# Altium footprint library on-semiconductor.PCBLIB: 14 footprints
Each footprint in its own frame and in the unit in brackets; x right, y up, seen from the top. Pads: shape width x height; smd on the part's side, far side on the other; paste and mask are expansions set on the pad; w line width, h text height; cw(c..) or ccw(c..) is an arc to the next point about the centre after c.
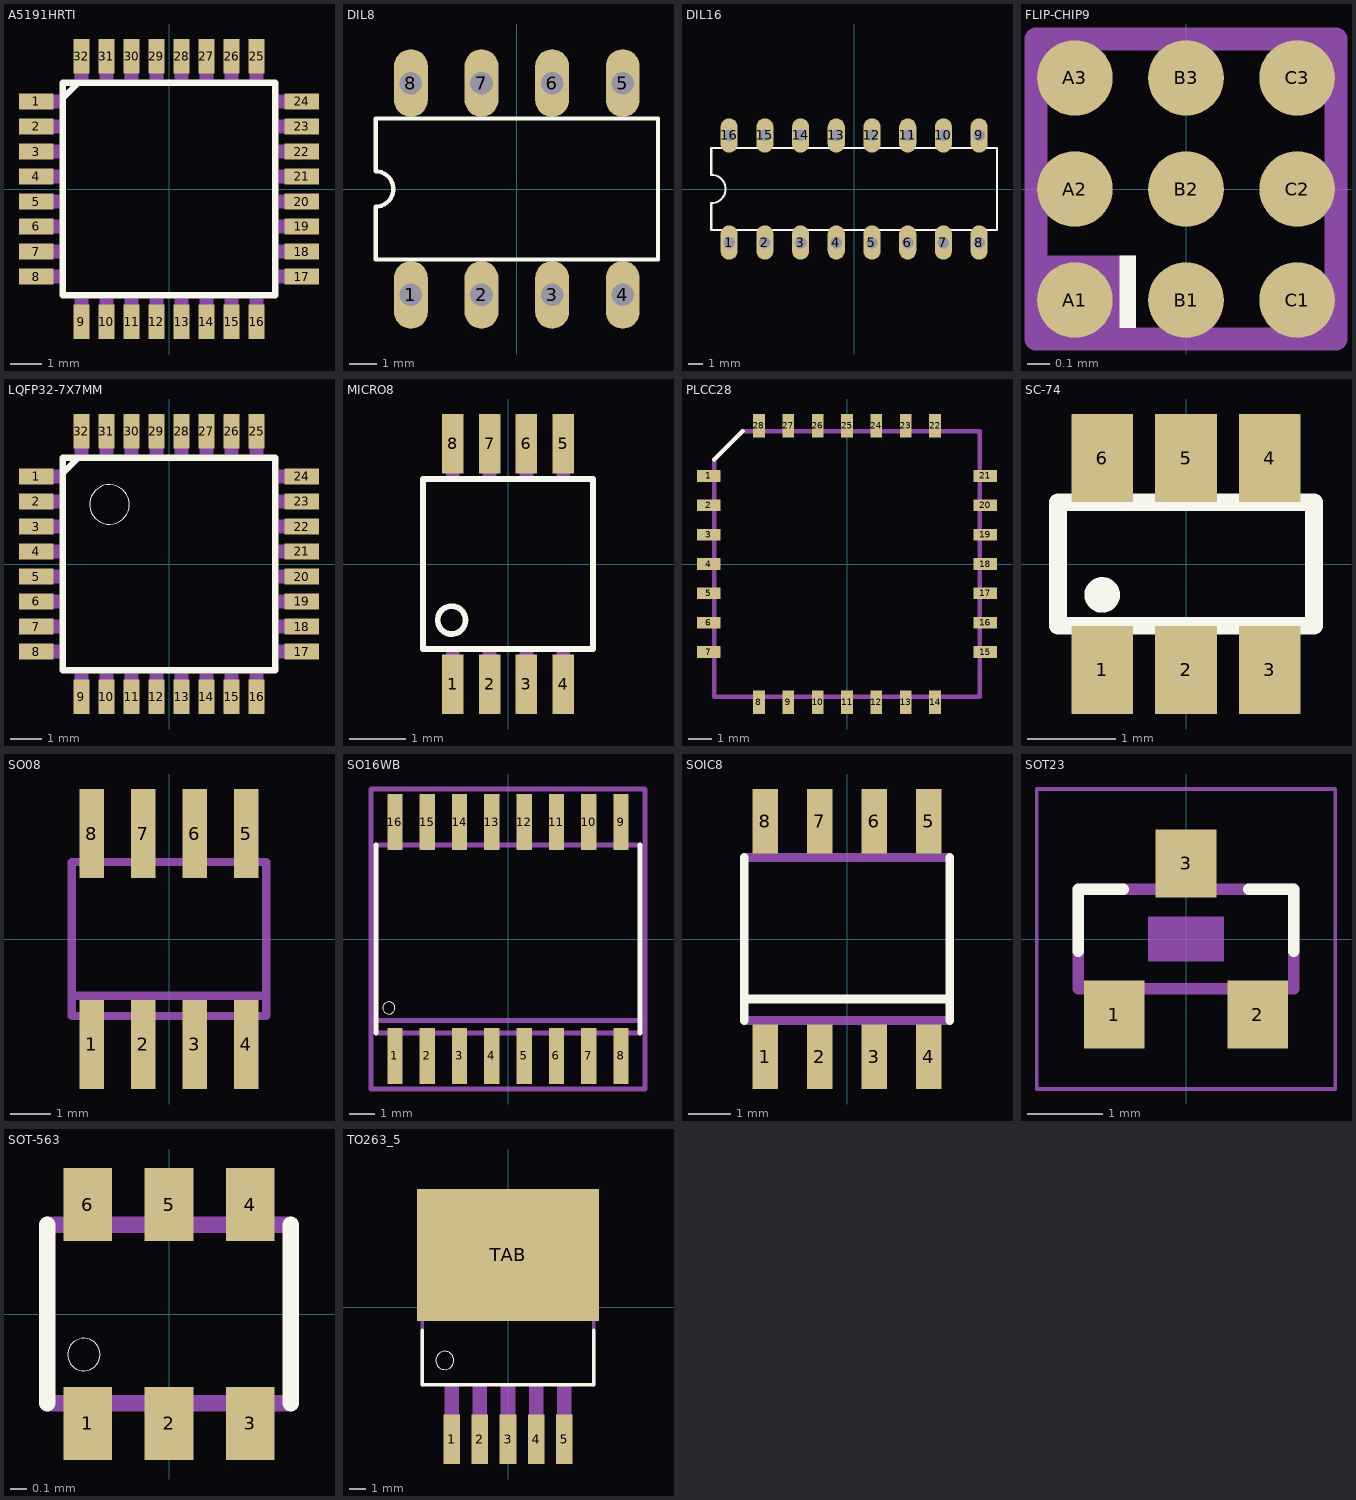
[diagram p0: the footprints below, top view; thin cyan lines are the x and y axes]

## A5191HRTI [mm]
pads (32):
  rect 1.1x0.5 smd: 1(-4.25,2.8) 2(-4.25,2) 3(-4.25,1.2) 4(-4.25,0.4) 5(-4.25,-0.4) 6(-4.25,-1.2) 7(-4.25,-2) 8(-4.25,-2.8) 17(4.25,-2.8) 18(4.25,-2) 19(4.25,-1.2) 20(4.25,-0.4) 21(4.25,0.4) 22(4.25,1.2) 23(4.25,2) 24(4.25,2.8)
  rect 0.5x1.1 smd: 9(-2.8,-4.25) 10(-2,-4.25) 11(-1.2,-4.25) 12(-0.4,-4.25) 13(0.4,-4.25) 14(1.2,-4.25) 15(2,-4.25) 16(2.8,-4.25) 25(2.8,4.25) 26(2,4.25) 27(1.2,4.25) 28(0.4,4.25) 29(-0.4,4.25) 30(-1.2,4.25) 31(-2,4.25) 32(-2.8,4.25)
Top Overlay:
  lines w0.203: -3.399,2.9 -2.9,3.399 ; -3.399,-3.399 3.399,-3.399 3.399,3.399 -3.399,3.399 -3.399,-3.399
Mechanical 16:
  rectangle: -4.5,2.575 -3.5,3.025
  rectangle: -4.5,1.775 -3.5,2.225
  rectangle: -4.5,0.975 -3.5,1.425
  rectangle: -4.5,0.175 -3.5,0.625
  rectangle: -4.5,-0.625 -3.5,-0.175
  rectangle: -4.5,-1.425 -3.5,-0.975
  rectangle: -4.5,-2.225 -3.5,-1.775
  rectangle: -4.5,-3.025 -3.5,-2.575
  rectangle: -3.025,-4.5 -2.575,-3.5
  rectangle: -2.225,-4.5 -1.775,-3.5
  rectangle: -1.425,-4.5 -0.975,-3.5
  rectangle: -0.625,-4.5 -0.175,-3.5
  rectangle: 0.175,-4.5 0.625,-3.5
  rectangle: 0.975,-4.5 1.425,-3.5
  rectangle: 1.775,-4.5 2.225,-3.5
  rectangle: 2.575,-4.5 3.025,-3.5
  rectangle: 3.5,-3.025 4.5,-2.575
  rectangle: 3.5,-2.225 4.5,-1.775
  rectangle: 3.5,-1.425 4.5,-0.975
  rectangle: 3.5,-0.625 4.5,-0.175
  rectangle: 3.5,0.175 4.5,0.625
  rectangle: 3.5,0.975 4.5,1.425
  rectangle: 3.5,1.775 4.5,2.225
  rectangle: 3.5,2.575 4.5,3.025
  rectangle: 2.575,3.5 3.025,4.5
  rectangle: 1.775,3.5 2.225,4.5
  rectangle: 0.975,3.5 1.425,4.5
  rectangle: 0.175,3.5 0.625,4.5
  rectangle: -0.625,3.5 -0.175,4.5
  rectangle: -1.425,3.5 -0.975,4.5
  rectangle: -2.225,3.5 -1.775,4.5
  rectangle: -3.025,3.5 -2.575,4.5

## DIL8 [mil]
pads (8):
  oval 48x96 hole 32: 1(-150,-150) 2(-50,-150) 3(50,-150) 4(150,-150) 5(150,150) 6(50,150) 7(-50,150) 8(-150,150)
Top Overlay:
  lines w6: -200,-100 -200,-25 ccw(c-200,0) -200,25 -200,100 200,100 200,-100 -200,-100

## DIL16 [mil]
pads (16):
  oval 48x96 hole 32: 1(-350,-150) 2(-250,-150) 3(-150,-150) 4(-50,-150) 5(50,-150) 6(150,-150) 7(250,-150) 8(350,-150) 9(350,150) 10(250,150) 11(150,150) 12(50,150) 13(-50,150) 14(-150,150) 15(-250,150) 16(-350,150)
Top Overlay:
  lines w6: -400,-115 400,-115 400,115 -400,115 -400,40 cw(c-400,0) -400,-40 -400,-115

## FLIP-CHIP9 [mil]
pads (9):
  rrect100% 13.39x13.39 smd: A1(-19.69,-19.69) A2(-19.69,0) A3(-19.69,19.69) B1(0,-19.69) B2(0,0) B3(0,19.69) C1(19.69,-19.69) C2(19.69,0) C3(19.69,19.69)
Top Overlay:
  rectangle: -11.81,-24.61 -8.86,-11.81
Top Solder:
  circle w0: c-19.69,19.69 r5.91
  circle w0: c-19.69,0 r5.91
  circle w0: c-19.69,-19.69 r5.91
  circle w0: c0,-19.69 r5.91
  circle w0: c0,0 r5.91
  circle w0: c0,19.69 r5.91
  circle w0: c19.69,19.69 r5.91
  circle w0: c19.69,0 r5.91
  circle w0: c19.69,-19.69 r5.91
Mechanical 16:
  rectangle: -26.57,-25.59 -8.86,-11.81
  lines w4: -26.57,-26.57 26.57,-26.57 26.57,26.57 -26.57,26.57 -26.57,-26.57

## LQFP32-7X7MM [mm]
pads (32):
  rect 1.1x0.5 smd: 1(-4.25,2.8) 2(-4.25,2) 3(-4.25,1.2) 4(-4.25,0.4) 5(-4.25,-0.4) 6(-4.25,-1.2) 7(-4.25,-2) 8(-4.25,-2.8) 17(4.25,-2.8) 18(4.25,-2) 19(4.25,-1.2) 20(4.25,-0.4) 21(4.25,0.4) 22(4.25,1.2) 23(4.25,2) 24(4.25,2.8)
  rect 0.5x1.1 smd: 9(-2.8,-4.25) 10(-2,-4.25) 11(-1.2,-4.25) 12(-0.4,-4.25) 13(0.4,-4.25) 14(1.2,-4.25) 15(2,-4.25) 16(2.8,-4.25) 25(2.8,4.25) 26(2,4.25) 27(1.2,4.25) 28(0.4,4.25) 29(-0.4,4.25) 30(-1.2,4.25) 31(-2,4.25) 32(-2.8,4.25)
Top Overlay:
  circle w0: c-1.905,1.905 r0.635
  lines w0.203: -3.399,2.9 -2.9,3.399 ; -3.399,-3.399 3.399,-3.399 3.399,3.399 -3.399,3.399 -3.399,-3.399
Mechanical 16:
  rectangle: -4.5,2.575 -3.5,3.025
  rectangle: -4.5,1.775 -3.5,2.225
  rectangle: -4.5,0.975 -3.5,1.425
  rectangle: -4.5,0.175 -3.5,0.625
  rectangle: -4.5,-0.625 -3.5,-0.175
  rectangle: -4.5,-1.425 -3.5,-0.975
  rectangle: -4.5,-2.225 -3.5,-1.775
  rectangle: -4.5,-3.025 -3.5,-2.575
  rectangle: -3.025,-4.5 -2.575,-3.5
  rectangle: -2.225,-4.5 -1.775,-3.5
  rectangle: -1.425,-4.5 -0.975,-3.5
  rectangle: -0.625,-4.5 -0.175,-3.5
  rectangle: 0.175,-4.5 0.625,-3.5
  rectangle: 0.975,-4.5 1.425,-3.5
  rectangle: 1.775,-4.5 2.225,-3.5
  rectangle: 2.575,-4.5 3.025,-3.5
  rectangle: 3.5,-3.025 4.5,-2.575
  rectangle: 3.5,-2.225 4.5,-1.775
  rectangle: 3.5,-1.425 4.5,-0.975
  rectangle: 3.5,-0.625 4.5,-0.175
  rectangle: 3.5,0.175 4.5,0.625
  rectangle: 3.5,0.975 4.5,1.425
  rectangle: 3.5,1.775 4.5,2.225
  rectangle: 3.5,2.575 4.5,3.025
  rectangle: 2.575,3.5 3.025,4.5
  rectangle: 1.775,3.5 2.225,4.5
  rectangle: 0.975,3.5 1.425,4.5
  rectangle: 0.175,3.5 0.625,4.5
  rectangle: -0.625,3.5 -0.175,4.5
  rectangle: -1.425,3.5 -0.975,4.5
  rectangle: -2.225,3.5 -1.775,4.5
  rectangle: -3.025,3.5 -2.575,4.5

## MICRO8 [mm]
pads (8):
  rect 0.38x1.05 smd: 1(-0.975,-2.125) 2(-0.325,-2.125) 3(0.325,-2.125) 4(0.975,-2.125) 5(0.975,2.125) 6(0.325,2.125) 7(-0.325,2.125) 8(-0.975,2.125)
Top Overlay:
  circle w0.102: c-0.996,-0.991 r0.246
  lines w0.102: -1.5,-1.5 1.5,-1.5 1.5,1.5 -1.5,1.5 -1.5,-1.5
Mechanical 16:
  rectangle: -1.098,1.55 -0.854,2.525
  rectangle: -0.448,1.55 -0.204,2.525
  rectangle: 0.202,1.55 0.446,2.525
  rectangle: 0.852,1.55 1.096,2.525
  rectangle: -1.098,-2.525 -0.854,-1.55
  rectangle: -0.448,-2.525 -0.204,-1.55
  rectangle: 0.202,-2.525 0.446,-1.55
  rectangle: 0.852,-2.525 1.096,-1.55

## PLCC28 [mil]
pads (28):
  rect 40x20 smd: 1(-235.5,150) 2(-235.5,100) 3(-235.5,50) 4(-235.5,0) 5(-235.5,-50) 6(-235.5,-100) 7(-235.5,-150) 15(235.5,-150) 16(235.5,-100) 17(235.5,-50) 18(235.5,0) 19(235.5,50) 20(235.5,100) 21(235.5,150)
  rect 20x40 smd: 8(-150,-235.5) 9(-100,-235.5) 10(-50,-235.5) 11(0,-235.5) 12(50,-235.5) 13(100,-235.5) 14(150,-235.5) 22(150,235.5) 23(100,235.5) 24(50,235.5) 25(0,235.5) 26(-50,235.5) 27(-100,235.5) 28(-150,235.5)
Top Overlay:
  lines w8: -225.9,178 -178,225.9
Mechanical 16:
  rectangle: -247.5,149.93 -226,150.07
  rectangle: -247.5,99.93 -226,100.07
  rectangle: -247.5,49.93 -226,50.07
  rectangle: -247.5,-0.07 -226,0.07
  rectangle: -247.5,-50.07 -226,-49.93
  rectangle: -247.5,-100.07 -226,-99.93
  rectangle: -247.5,-150.07 -226,-149.93
  rectangle: -150.07,-247.5 -149.93,-226
  rectangle: -100.07,-247.5 -99.93,-226
  rectangle: -50.07,-247.5 -49.93,-226
  rectangle: -0.07,-247.5 0.07,-226
  rectangle: 49.93,-247.5 50.07,-226
  rectangle: 99.93,-247.5 100.07,-226
  rectangle: 149.93,-247.5 150.07,-226
  rectangle: 226,-150.07 247.5,-149.93
  rectangle: 226,-100.07 247.5,-99.93
  rectangle: 226,-50.07 247.5,-49.93
  rectangle: 226,-0.07 247.5,0.07
  rectangle: 226,49.93 247.5,50.07
  rectangle: 226,99.93 247.5,100.07
  rectangle: 226,149.93 247.5,150.07
  rectangle: 149.93,226 150.07,247.5
  rectangle: 99.93,226 100.07,247.5
  rectangle: 49.93,226 50.07,247.5
  rectangle: -0.07,226 0.07,247.5
  rectangle: -50.07,226 -49.93,247.5
  rectangle: -100.07,226 -99.93,247.5
  rectangle: -150.07,226 -149.93,247.5
  lines w8: -225.9,178 -225.9,-225.9 225.9,-225.9 225.9,225.9 -178,225.9

## SC-74 [mm]
pads (6):
  rect 0.7x1 smd: 1(-0.95,-1.2) 2(0,-1.2) 3(0.95,-1.2) 4(0.95,1.2) 5(0,1.2) 6(-0.95,1.2)
Top Overlay:
  circle w0.203: c-0.95,-0.35 r0.1
  lines w0.203: -1.45,-0.7 -1.45,0.7 1.45,0.7 1.45,-0.7 -1.45,-0.7
Mechanical 16:
  rectangle: -1.125,-1.3 -0.775,-0.775
  rectangle: -0.175,-1.3 0.175,-0.775
  rectangle: 0.775,-1.3 1.125,-0.775
  rectangle: 0.775,0.775 1.125,1.3
  rectangle: -0.175,0.775 0.175,1.3
  rectangle: -1.125,0.775 -0.775,1.3

## SO08 [mil]
pads (8):
  rect 23.62x86.61 smd: 1(-75,-102.36) 2(-25,-102.36) 3(25,-102.36) 4(75,-102.36) 5(75,102.36) 6(25,102.36) 7(-25,102.36) 8(-75,102.36)
Mechanical 16:
  rectangle: -84.65,-122.05 -65.35,-78.74
  rectangle: -34.65,-122.05 -15.35,-78.74
  rectangle: 15.35,-122.05 34.65,-78.74
  rectangle: 65.35,-122.05 84.65,-78.74
  rectangle: 65.35,78.74 84.65,122.05
  rectangle: 15.35,78.74 34.65,122.05
  rectangle: -34.65,78.74 -15.35,122.05
  rectangle: -84.65,78.74 -65.35,122.05
  lines w8: -94.49,-55.12 -94.49,-74.8 94.49,-74.8 94.49,-55.12 ; -94.49,-55.12 -94.49,74.8 94.49,74.8 94.49,-55.12 ; -94.49,-55.12 94.49,-55.12

## SO16WB [mil]
pads (16):
  rect 23.62x86.61 smd: 1(-175,-181.1) 2(-125,-181.1) 3(-75,-181.1) 4(-25,-181.1) 5(25,-181.1) 6(75,-181.1) 7(125,-181.1) 8(175,-181.1) 9(175,181.1) 10(125,181.1) 11(75,181.1) 12(25,181.1) 13(-25,181.1) 14(-75,181.1) 15(-125,181.1) 16(-175,181.1)
Top Overlay:
  circle w0: c-184.55,-106.79 r9.36
  lines w8: -204.33,-145.67 -204.33,145.67 ; 204.33,-145.67 204.33,145.67
Mechanical 16:
  rectangle: -184.65,-209.45 -165.35,-149.61
  rectangle: -134.65,-209.45 -115.35,-149.61
  rectangle: -84.65,-209.45 -65.35,-149.61
  rectangle: -34.65,-209.45 -15.35,-149.61
  rectangle: 15.35,-209.45 34.65,-149.61
  rectangle: 65.35,-209.45 84.65,-149.61
  rectangle: 115.35,-209.45 134.65,-149.61
  rectangle: 165.35,-209.45 184.65,-149.61
  rectangle: 165.35,149.61 184.65,209.45
  rectangle: 115.35,149.61 134.65,209.45
  rectangle: 65.35,149.61 84.65,209.45
  rectangle: 15.35,149.61 34.65,209.45
  rectangle: -34.65,149.61 -15.35,209.45
  rectangle: -84.65,149.61 -65.35,209.45
  rectangle: -134.65,149.61 -115.35,209.45
  rectangle: -184.65,149.61 -165.35,209.45
  lines w8: -204.33,-145.67 204.33,-145.67 ; -204.33,-125.98 204.33,-125.98 ; -204.33,145.67 204.33,145.67
Mechanical 27:
  lines w7.87: -212.4,-232.28 212.4,-232.28 212.4,232.28 -212.4,232.28 -212.4,-232.28

## SOIC8 [mil]
pads (8):
  rect 23.62x59.06 smd: 1(-75,-108.27) 2(-25,-108.27) 3(25,-108.27) 4(75,-108.27) 5(75,108.27) 6(25,108.27) 7(-25,108.27) 8(-75,108.27)
Top Overlay:
  lines w8: -94.49,-74.8 -94.49,-55.12 ; -94.49,74.8 -94.49,-55.12 ; 94.49,-74.8 94.49,-55.12 ; 94.49,74.8 94.49,-55.12 ; -94.49,-55.12 94.49,-55.12
Mechanical 16:
  rectangle: -84.65,-122.05 -65.35,-78.74
  rectangle: -34.65,-122.05 -15.35,-78.74
  rectangle: 15.35,-122.05 34.65,-78.74
  rectangle: 65.35,-122.05 84.65,-78.74
  rectangle: 65.35,78.74 84.65,122.05
  rectangle: 15.35,78.74 34.65,122.05
  rectangle: -34.65,78.74 -15.35,122.05
  rectangle: -84.65,78.74 -65.35,122.05
  lines w8: -94.49,-74.8 94.49,-74.8 ; -94.49,74.8 94.49,74.8

## SOT23 [mil]
pads (3):
  rect 31.5x35.43 smd: 1(-37.4,-39.37) 2(37.4,-39.37) 3(0,39.37)
Top Overlay:
  lines w6: -55.98,-6.3 -55.98,25.98 -32.6,25.98 ; 32.6,25.98 55.98,25.98 55.98,-6.3
Mechanical 6:
  rectangle: -19.69,-11.81 19.69,11.81
Mechanical 16:
  rectangle: -9,28 9,51
  rectangle: 28,-51 46,-28
  rectangle: -46,-51 -28,-28
  lines w6: -55.98,-25.98 55.98,-25.98 55.98,25.98 -55.98,25.98 -55.98,-25.98
Mechanical 27:
  lines w2: -77.68,-78.07 77.68,-78.07 77.68,78.07 -77.68,78.07 -77.68,-78.07

## SOT-563 [mil]
pads (6):
  rect 11.81x17.72 smd: 1(-19.69,-26.57) 2(0,-26.57) 3(19.69,-26.57) 4(19.69,26.57) 5(0,26.57) 6(-19.69,26.57)
Top Overlay:
  circle w0: c-20.67,-9.84 r3.94
  lines w4: -29.53,-21.65 -29.53,21.65 ; 29.53,-21.65 29.53,21.65
Top Paste:
  rectangle: -24.61,18.7 -14.76,34.45
  rectangle: -4.92,18.7 4.92,34.45
  rectangle: 14.76,18.7 24.61,34.45
  region: 24.61,-18.7 14.76,-18.7 14.76,-34.45 24.61,-34.45
  region: 4.92,-18.7 -4.92,-18.7 -4.92,-34.45 4.92,-34.45
  region: -14.76,-18.7 -24.61,-18.7 -24.61,-34.45 -14.76,-34.45
Top Solder:
  rectangle: -26.57,16.73 -12.8,36.42
  rectangle: -6.89,16.73 6.89,36.42
  rectangle: 12.8,16.73 26.57,36.42
  region: 26.57,-16.73 12.8,-16.73 12.8,-36.42 26.57,-36.42
  region: 6.89,-16.73 -6.89,-16.73 -6.89,-36.42 6.89,-36.42
  region: -12.8,-16.73 -26.57,-16.73 -26.57,-36.42 -12.8,-36.42
Mechanical 16:
  lines w4: -29.53,-21.65 29.53,-21.65 ; -29.53,21.65 29.53,21.65

## TO263_5 [mm]
pads (6):
  rect 1x3 smd: 1(-3.4,-8) 2(-1.7,-8) 3(0,-8) 4(1.7,-8) 5(3.4,-8)
  rect 11x8 smd: TAB(0,3.175)
Top Overlay:
  circle w0: c-3.825,-3.225 r0.552
  lines w0.203: -5.2,-1.396 -5.2,-4.7 5.2,-4.7 5.2,-1.396
Mechanical 16:
  rectangle: -3.84,-9.2 -2.96,-4.725
  rectangle: -2.14,-9.2 -1.26,-4.725
  rectangle: -0.44,-9.2 0.44,-4.725
  rectangle: 1.26,-9.2 2.14,-4.725
  rectangle: 2.96,-9.2 3.84,-4.725
  lines w0.203: -5.2,-4.7 -5.2,4.7 ; 5.2,-4.7 5.2,4.7 ; -5.2,4.7 5.2,4.7 ; -5.2,4.7 -5.2,6.1 -3.5,6.375 3.475,6.375 5.2,6.1 5.2,4.7